# Altium schematic symbol library ESDSupressor.Schlib: 1 symbol
Pins are listed as number, name and electrical type; pins without a type are passive.

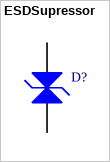
[diagram p0: symbol ESDSupressor]

## ESDSupressor
designator D?
ESD Supressor
signal-integrity model ESD Suppressor
pins: 1, 2